# Altium schematic symbol library TB6560AFG(O,8).SCHLIB: 1 symbol
Pins are listed as number, name and electrical type; pins without a type are passive.

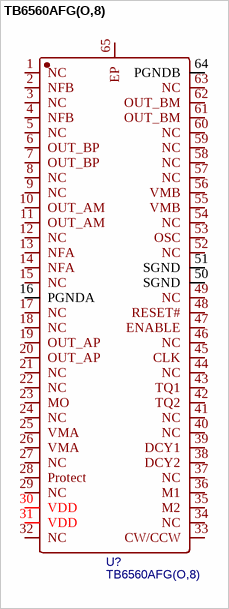
[diagram p0: symbol TB6560AFG(O,8)]

## TB6560AFG(O,8)
designator U?
Manufacturer: TOSHIBA(东芝); Contributor: LCSC; Supplier: LCSC; Supplier Part: C840439; Manufacturer Part: TB6560AFG(O,8); JLCPCB Part Class: Extended Part; spicePre: U; spiceSymbolName: TB6560AFG(O,8)
footprint HQFP-64_L10.0-W10.0-P0.50-LS12.0-BL-EP
pins: 1 NC, 2 NFB, 3 NC, 4 NFB, 5 NC, 6 OUT_BP, 7 OUT_BP, 8 NC, 9 NC, 10 OUT_AM, 11 OUT_AM, 12 NC, 13 NFA, 14 NFA, 15 NC, 16 PGNDA, 17 NC, 18 NC, 19 OUT_AP, 20 OUT_AP, 21 NC, 22 NC, 23 MO, 24 NC, 25 VMA, 26 VMA, 27 NC, 28 Protect, 29 NC, 30 VDD, 31 VDD, 32 NC, 33 CW/CCW, 34 NC, 35 M2, 36 M1, 37 NC, 38 DCY2, 39 DCY1, 40 NC, 41 NC, 42 TQ2, 43 TQ1, 44 NC, 45 CLK, 46 NC, 47 ENABLE, 48 RESET#, 49 NC, 50 SGND, 51 SGND, 52 NC, 53 OSC, 54 NC, 55 VMB, 56 VMB, 57 NC, 58 NC, 59 NC, 60 NC, 61 OUT_BM, 62 OUT_BM, 63 NC, 64 PGNDB, 65 EP